# Altium schematic symbol library B3U-1000P.Schlib: 1 symbol
Pins are listed as number, name and electrical type; pins without a type are passive.

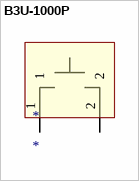
[diagram p0: symbol B3U-1000P]

## B3U-1000P
designator *
pins: 1, 2